# EAGLE library part 6P1_HDR (library wheat)
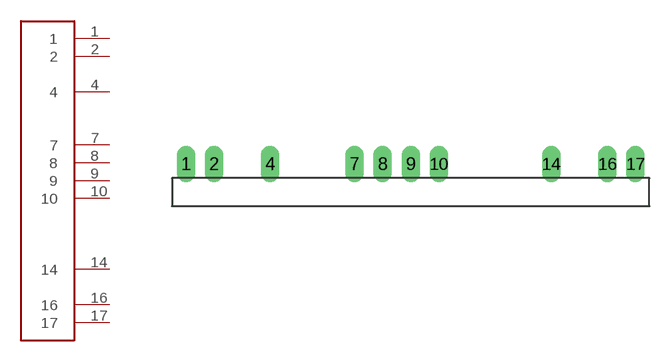
[diagram p268: symbol with the pads of 6P1_HEADER; footprint 6P1_HEADER]

Designator prefix -

## 6P1_HDR  [6P1_HEADER]
1  1
2  2
4  4
7  7
8  8
9  9
10  10
14  14
16  16
17  17

## Footprint 6P1_HEADER (pad centres in mm)
drill 0.8 long: 1 -16,0; 2 -14,0; 4 -10,0; 7 -4,0; 8 -2,0; 9 0,0; 10 2,0; 14 10,0; 16 14,0; 17 16,0